# Altium schematic symbol library LS044Q4DH01.Schlib: 1 symbol
Pins are listed as number, name and electrical type; pins without a type are passive.

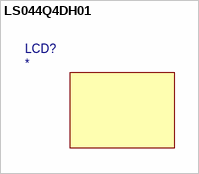
[diagram p0: symbol LS044Q4DH01]

## LS044Q4DH01
designator LCD?  (graphical)